# Altium footprint library CapacitorsforTPS6513x.PcbLib: 9 footprints
Each footprint in its own frame and in the unit in brackets; x right, y up, seen from the top. Pads: shape width x height; smd on the part's side, far side on the other; paste and mask are expansions set on the pad; w line width, h text height; cw(c..) or ccw(c..) is an arc to the next point about the centre after c.
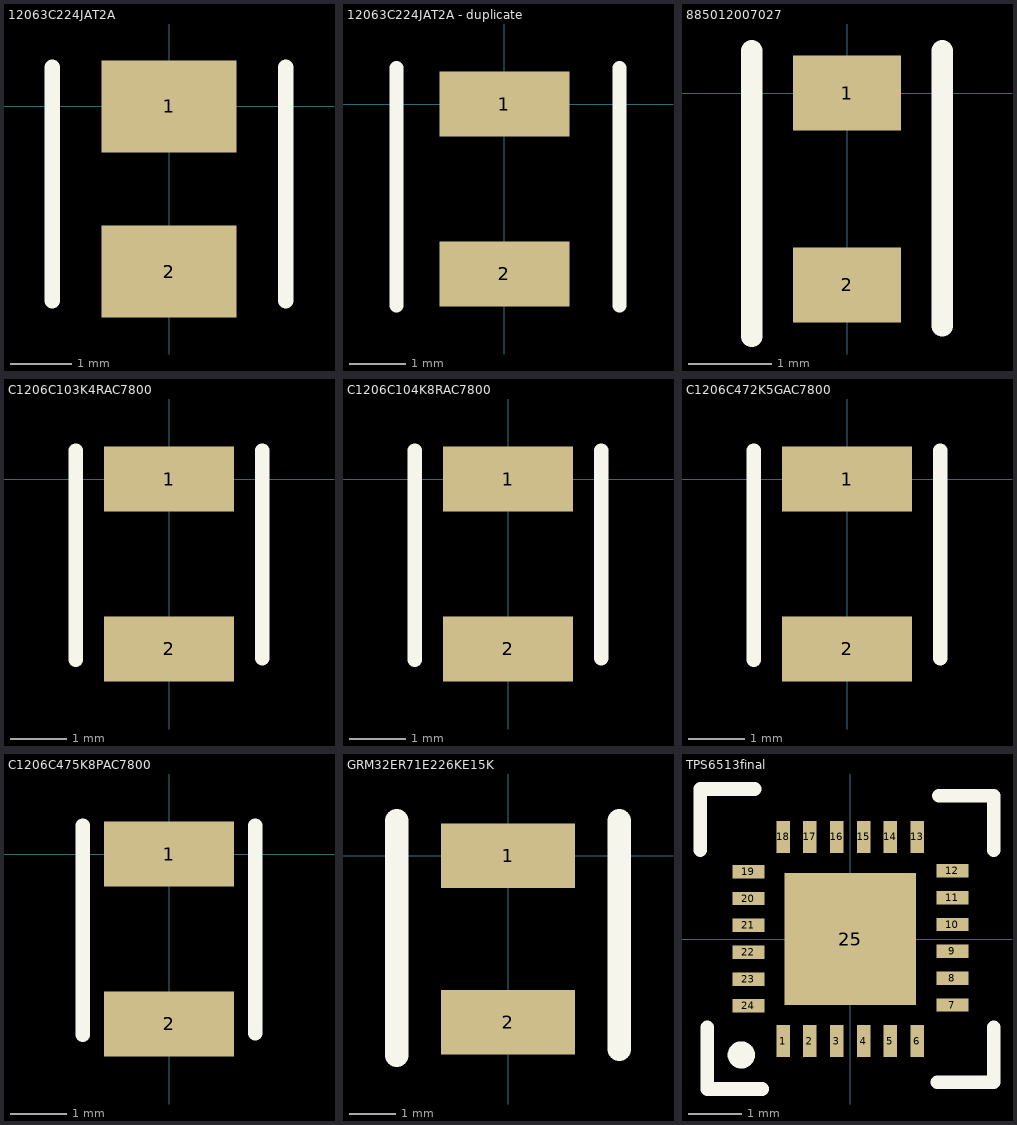
[diagram p0: the footprints below, top view; thin cyan lines are the x and y axes]

## 12063C224JAT2A [mm] "CAP CER .22uF 25V X7R 1206"
pads (2):
  rect 2.2x1.5 smd: 1(0,0) 2(0,-2.7)
Top Overlay:
  lines w0.254: -1.905,-3.175 -1.905,0.635 ; 1.905,-3.175 1.905,0.635

## 12063C224JAT2A - duplicate [mm] "220nF 25V X7R 1206"
pads (2):
  rect 2.3x1.15 smd: 1(0,0) 2(0,-3)
Top Overlay:
  lines w0.25: -1.905,-3.556 -1.905,0.635 ; 2.032,-3.556 2.032,0.635

## 885012007027 [mm] "CER 6.8pF 25V C0G/NP0 0805"
pads (2):
  rect 1.3x0.9 smd: 1(0,0) 2(0,-2.3)
Top Overlay:
  lines w0.254: -1.143,-2.921 -1.143,0.508 ; 1.143,-2.794 1.143,0.508

## C1206C103K4RAC7800 [mm] "10000pF 16V X7R 1206"
pads (2):
  rect 2.3x1.15 smd: 1(0,0.003) 2(0,-3)
Top Overlay:
  lines w0.254: -1.651,-3.192 -1.651,0.508 ; 1.651,-3.167 1.651,0.508

## C1206C104K8RAC7800 [mm] ".1uF 10V X7R 1206"
pads (2):
  rect 2.3x1.15 smd: 1(0,0.003) 2(0,-3)
Top Overlay:
  lines w0.254: -1.651,-3.192 -1.651,0.508 ; 1.651,-3.167 1.651,0.508

## C1206C472K5GAC7800 [mm] "4700pF 50V C0G/NP0 1206"
pads (2):
  rect 2.3x1.15 smd: 1(0,0.003) 2(0,-3)
Top Overlay:
  lines w0.254: -1.651,-3.192 -1.651,0.508 ; 1.651,-3.167 1.651,0.508

## C1206C475K8PAC7800 [mm] "4.7uF 10VX5R 1206"
pads (2):
  rect 2.3x1.15 smd: 1(0,0.003) 2(0,-3)
Top Overlay:
  lines w0.254: -1.524,-3.192 -1.524,0.508 ; 1.524,-3.167 1.524,0.508

## GRM32ER71E226KE15K [mm] "22uF 25V X7R 1210"
pads (2):
  rect 2.9x1.4 smd: 1(0,0) 2(0,-3.6)
Top Overlay:
  lines w0.508: -2.413,-4.318 -2.413,0.762 ; 2.413,-4.191 2.413,0.762

## TPS6513final [mm] "boost and inverter"
pads (25):
  rect 0.25x0.6 smd: 1(-1.254,-1.9) 2(-0.754,-1.9) 3(-0.254,-1.9) 4(0.246,-1.9) 5(0.746,-1.9) 6(1.246,-1.9) 13(1.246,1.9) 14(0.746,1.9) 15(0.246,1.9) 16(-0.254,1.9) 17(-0.754,1.9) 18(-1.254,1.9)
  rect 0.6x0.25 smd: 7(1.9,-1.23) 8(1.9,-0.73) 9(1.9,-0.23) 10(1.9,0.27) 11(1.9,0.77) 12(1.9,1.27) 19(-1.9,1.254) 20(-1.9,0.754) 21(-1.9,0.254) 22(-1.9,-0.246) 23(-1.9,-0.746) 24(-1.9,-1.246)
  rect 2.45x2.45 smd: 25(0,0)
Top Overlay:
  circle w0.254: c-2.032,-2.159 r0.127
  lines w0.254: -2.794,1.659 -2.794,2.794 -1.786,2.794 ; -2.667,-1.643 -2.667,-2.794 -1.643,-2.794 ; 1.619,-2.667 2.667,-2.667 2.667,-1.643 ; 1.651,2.667 2.667,2.667 2.667,1.651